# EAGLE library part LM4753 (library Audio-Power-amlifier V.2.0)
The LM4753 is a stereo audio amplifier capable of delivering 10W/channel at 10% distortion into a 8W load. The power amp has an internally set gain of 30 dB. A 0V–5V DC controlled volume block provides 80 dB of attenuation from input to line-out. Line outputs are available after the volume control for signal routing.
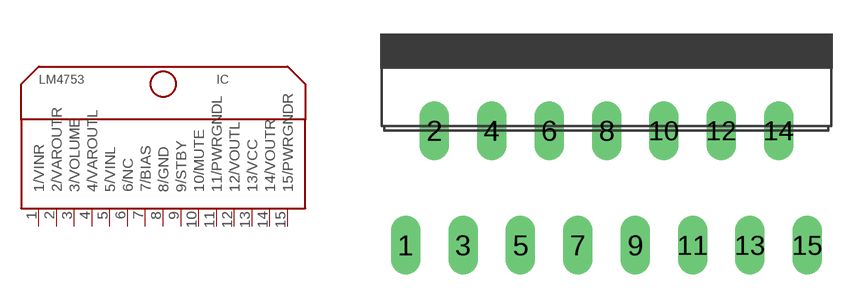
[diagram p194: symbol with the pads of TA15A; footprint TA15A]

Designator prefix IC

## LM4753  [TA15A]
1  1/VINR  in
2  2/VAROUTR  out
3  3/VOLUME  in
4  4/VAROUTL  out
5  5/VINL  in
6  6/NC  nc
7  7/BIAS
8  8/GND  pwr
9  9/STBY  in
10  10/MUTE  in
11  11/PWRGNDL  pwr
12  12/VOUTL  out
13  13/VCC  pwr
14  14/VOUTR  out
15  15/PWRGNDR  pwr

## Footprint TA15A (pad centres in mm)
TA15A www.national.com
drill 0.8 long: 1 -8.89,-5.08; 2 -7.62,0; 3 -6.35,-5.08; 4 -5.08,0; 5 -3.81,-5.08; 6 -2.54,0; 7 -1.27,-5.08; 8 0,0; 9 1.27,-5.08; 10 2.54,0; 11 3.81,-5.08; 12 5.08,0; 13 6.35,-5.08; 14 7.62,0; 15 8.89,-5.08